# EAGLE library part LT3502* (library linear-technology)
1.1MHz/2.2MHz, 500mA Step-Down Regulators in 2mm × 2mm DFN and MS10
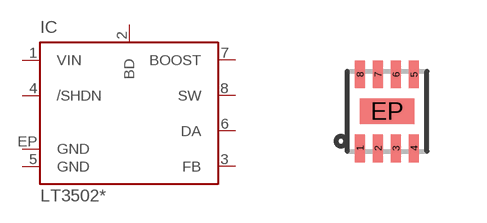
[diagram p7: symbol with the pads of DFN8EP; footprint DFN8EP]

Designator prefix IC

## LT3502DC, LT3502ADC  [DFN8EP]
1  VIN  pwr
2  BD  pas
3  FB  pas
4  /SHDN  in
5  GND  pwr
6  DA  pas
7  BOOST  pas
8  SW  pas
EP  GND  pwr

## Footprint DFN8EP (pad centres in mm)
Plactic quad flatpack no-lead
smd 0.25 x 0.7: 1 -0.675,-0.925; 2 -0.225,-0.925; 3 0.225,-0.925; 4 0.675,-0.925; 5 0.675,0.925; 6 0.225,0.925; 7 -0.225,0.925; 8 -0.675,0.925
smd 1.37 x 0.64: EP 0,0